# Altium footprint library HARTING Footprints.PcbLib: 317 footprints (part 1 of 20)
Each footprint in its own frame and in the unit in brackets; x right, y up, seen from the top. Pads: shape width x height; smd on the part's side, far side on the other; paste and mask are expansions set on the pad; w line width, h text height; cw(c..) or ccw(c..) is an arc to the next point about the centre after c.
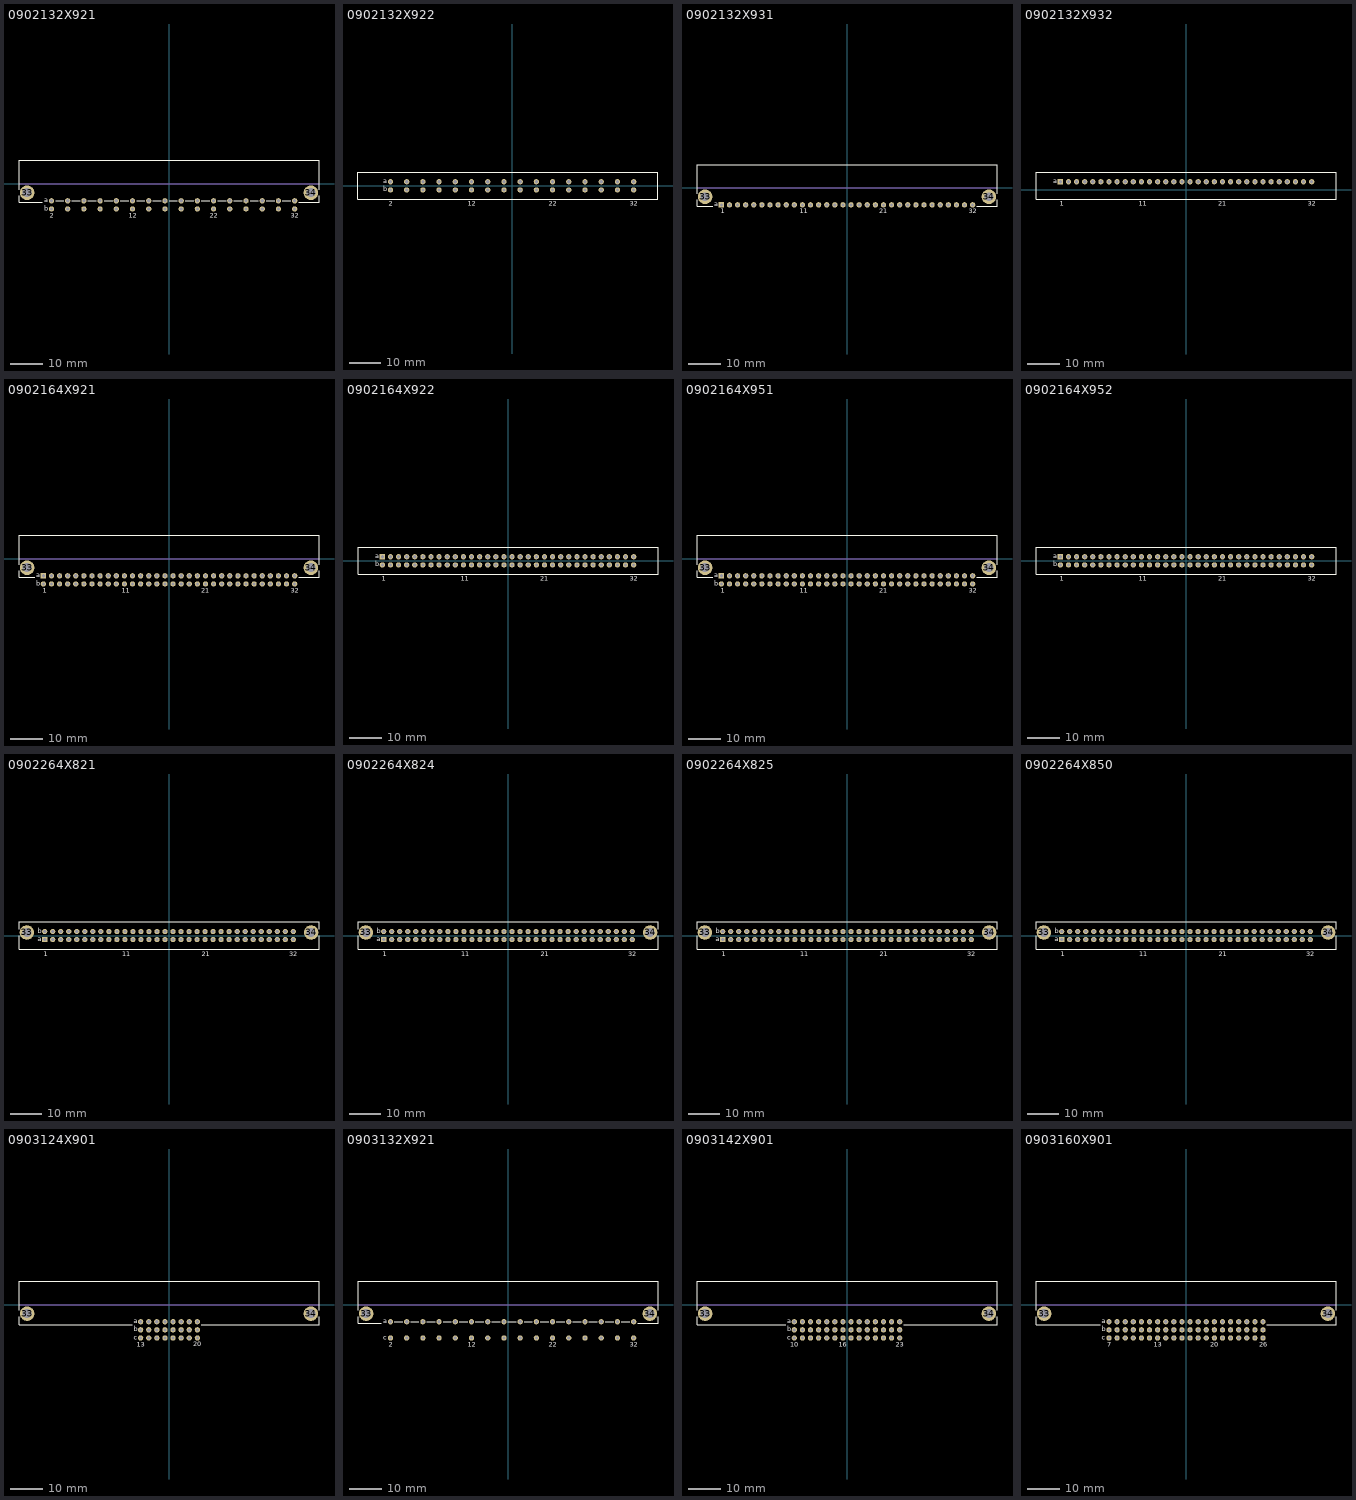
[diagram p0: the footprints below, top view; thin cyan lines are the x and y axes]

## 0902132X921 [mm] "Connector; DIN 41612, Type B, Thru-Hole; Rows a+b, 32 Position; Right Angle"
height 8.6
pads (34):
  round 4.6 hole 2.8: 33(-44.45,-2.76) 34(44.45,-2.76)
  round 1.65 hole 1: A2(-36.83,-5.3) A4(-31.75,-5.3) A6(-26.67,-5.3) A8(-21.59,-5.3) A10(-16.51,-5.3) A12(-11.43,-5.3) A14(-6.35,-5.3) A16(-1.27,-5.3) A18(3.81,-5.3) A20(8.89,-5.3) A22(13.97,-5.3) A24(19.05,-5.3) A26(24.13,-5.3) A28(29.21,-5.3) A30(34.29,-5.3) A32(39.37,-5.3) B2(-36.83,-7.84) B4(-31.75,-7.84) B6(-26.67,-7.84) B8(-21.59,-7.84) B10(-16.51,-7.84) B12(-11.43,-7.84) B14(-6.35,-7.84) B16(-1.27,-7.84) B18(3.81,-7.84) B20(8.89,-7.84) B22(13.97,-7.84) B24(19.05,-7.84) B26(24.13,-7.84) B28(29.21,-7.84) B30(34.29,-7.84) B32(39.37,-7.84)
Top Overlay:
  lines w0.2: -47,-3.76 -47,-5.8 -39.7,-5.8 ; -47,-1.76 -47,7.34 47,7.34 47,-1.76 ; -35.56,-5.3 -32.93,-5.3 ; -30.48,-5.3 -27.85,-5.3 ; -25.4,-5.3 -22.77,-5.3 ; -20.32,-5.3 -17.69,-5.3 ; -15.24,-5.3 -12.61,-5.3 ; -10.16,-5.3 -7.53,-5.3 ; -5.08,-5.3 -2.45,-5.3 ; 0,-5.3 2.63,-5.3 ; 5.08,-5.3 7.71,-5.3 ; 10.16,-5.3 12.79,-5.3 ; 15.24,-5.3 17.87,-5.3 ; 20.32,-5.3 22.95,-5.3 ; 25.4,-5.3 28.03,-5.3 ; 30.48,-5.3 33.11,-5.3 ; 35.56,-5.3 38.19,-5.3 ; 40.595,-5.8 47,-5.8 47,-3.76
  text "22" at 12.72,-10.54 h1.5
  text "12" at -12.68,-10.54 h1.5
  text "32" at 38.12,-10.54 h1.5
  text "b" at -39.04,-8.34 h1.5
  text "a" at -39.04,-5.8 h1.5
  text "2" at -37.33,-10.54 h1.5
Mechanical 1:
  lines w0.1: -47,0 47,0
  text "PCB Edge" at -46.47,0.5 h0.6

## 0902132X922 [mm] "Connector; DIN 41612, Type B, Thru-Hole; Rows a+b, 32 Position; Vertical, No Mounting Fixture"
height 13
pads (32):
  round 1.65 hole 1: A2(-38.1,1.27) A4(-33.02,1.27) A6(-27.94,1.27) A8(-22.86,1.27) A10(-17.78,1.27) A12(-12.7,1.27) A14(-7.62,1.27) A16(-2.54,1.27) A18(2.54,1.27) A20(7.62,1.27) A22(12.7,1.27) A24(17.78,1.27) A26(22.86,1.27) A28(27.94,1.27) A30(33.02,1.27) A32(38.1,1.27) B2(-38.1,-1.27) B4(-33.02,-1.27) B6(-27.94,-1.27) B8(-22.86,-1.27) B10(-17.78,-1.27) B12(-12.7,-1.27) B14(-7.62,-1.27) B16(-2.54,-1.27) B18(2.54,-1.27) B20(7.62,-1.27) B22(12.7,-1.27) B24(17.78,-1.27) B26(22.86,-1.27) B28(27.94,-1.27) B30(33.02,-1.27) B32(38.1,-1.27)
Top Overlay:
  lines w0.2: -48.27,-4.25 -48.27,4.25 45.73,4.25 45.73,-4.25 -48.27,-4.25
  text "22" at 11.45,-6.23 h1.5
  text "12" at -13.95,-6.23 h1.5
  text "32" at 36.85,-6.23 h1.5
  text "b" at -40.31,-1.77 h1.5
  text "a" at -40.31,0.77 h1.5
  text "2" at -38.6,-6.23 h1.5

## 0902132X931 [mm] "Connector; DIN 41612, Type B, Thru-Hole; Row a, 32 Position; Right Angle"
height 8.6
pads (34):
  round 4.6 hole 2.8: 33(-44.45,-2.76) 34(44.45,-2.76)
  rect 1.65x1.65 hole 1: A1(-39.37,-5.3)
  round 1.65 hole 1: A2(-36.83,-5.3) A3(-34.29,-5.3) A4(-31.75,-5.3) A5(-29.21,-5.3) A6(-26.67,-5.3) A7(-24.13,-5.3) A8(-21.59,-5.3) A9(-19.05,-5.3) A10(-16.51,-5.3) A11(-13.97,-5.3) A12(-11.43,-5.3) A13(-8.89,-5.3) A14(-6.35,-5.3) A15(-3.81,-5.3) A16(-1.27,-5.3) A17(1.27,-5.3) A18(3.81,-5.3) A19(6.35,-5.3) A20(8.89,-5.3) A21(11.43,-5.3) A22(13.97,-5.3) A23(16.51,-5.3) A24(19.05,-5.3) A25(21.59,-5.3) A26(24.13,-5.3) A27(26.67,-5.3) A28(29.21,-5.3) A29(31.75,-5.3) A30(34.29,-5.3) A31(36.83,-5.3) A32(39.37,-5.3)
Top Overlay:
  lines w0.2: -47,-3.76 -47,-5.8 -42.07,-5.8 ; -47,-1.76 -47,7.34 47,7.34 47,-1.76 ; 40.595,-5.8 47,-5.8 47,-3.76
  text "21" at 10.18,-8 h1.5
  text "11" at -14.845,-8 h1.5
  text "32" at 38.12,-8 h1.5
  text "a" at -41.58,-5.8 h1.5
  text "1" at -39.62,-8 h1.5
Mechanical 1:
  lines w0.1: -47,0 47,0
  text "PCB Edge" at -46.47,0.5 h0.6

## 0902132X932 [mm] "Connector; DIN 41612, Type B, Thru-Hole; Row a, 32 Position; Vertical, No Mounting Fixture"
height 13
pads (32):
  rect 1.65x1.65 hole 1: A1(-39.37,2.54)
  round 1.65 hole 1: A2(-36.83,2.54) A3(-34.29,2.54) A4(-31.75,2.54) A5(-29.21,2.54) A6(-26.67,2.54) A7(-24.13,2.54) A8(-21.59,2.54) A9(-19.05,2.54) A10(-16.51,2.54) A11(-13.97,2.54) A12(-11.43,2.54) A13(-8.89,2.54) A14(-6.35,2.54) A15(-3.81,2.54) A16(-1.27,2.54) A17(1.27,2.54) A18(3.81,2.54) A19(6.35,2.54) A20(8.89,2.54) A21(11.43,2.54) A22(13.97,2.54) A23(16.51,2.54) A24(19.05,2.54) A25(21.59,2.54) A26(24.13,2.54) A27(26.67,2.54) A28(29.21,2.54) A29(31.75,2.54) A30(34.29,2.54) A31(36.83,2.54) A32(39.37,2.54)
Top Overlay:
  lines w0.2: -47,-2.98 47,-2.98 47,5.52 -47,5.52 -47,-2.98
  text "a" at -41.58,2.04 h1.5
  text "1" at -39.62,-4.96 h1.5
  text "32" at 38.12,-4.96 h1.5
  text "11" at -14.82,-4.96 h1.5
  text "21" at 10.18,-4.96 h1.5

## 0902164X921 [mm] "Connector; DIN 41612, Type B, Thru-Hole; Rows a+b, 64 Position; Right Angle"
height 8.6
pads (66):
  round 4.6 hole 2.8: 33(-44.45,-2.76) 34(44.45,-2.76)
  rect 1.65x1.65 hole 1: A1(-39.37,-5.3)
  round 1.65 hole 1: A2(-36.83,-5.3) A3(-34.29,-5.3) A4(-31.75,-5.3) A5(-29.21,-5.3) A6(-26.67,-5.3) A7(-24.13,-5.3) A8(-21.59,-5.3) A9(-19.05,-5.3) A10(-16.51,-5.3) A11(-13.97,-5.3) A12(-11.43,-5.3) A13(-8.89,-5.3) A14(-6.35,-5.3) A15(-3.81,-5.3) A16(-1.27,-5.3) A17(1.27,-5.3) A18(3.81,-5.3) A19(6.35,-5.3) A20(8.89,-5.3) A21(11.43,-5.3) A22(13.97,-5.3) A23(16.51,-5.3) A24(19.05,-5.3) A25(21.59,-5.3) A26(24.13,-5.3) A27(26.67,-5.3) A28(29.21,-5.3) A29(31.75,-5.3) A30(34.29,-5.3) A31(36.83,-5.3) A32(39.37,-5.3) B1(-39.37,-7.84) B2(-36.83,-7.84) B3(-34.29,-7.84) B4(-31.75,-7.84) B5(-29.21,-7.84) B6(-26.67,-7.84) B7(-24.13,-7.84) B8(-21.59,-7.84) B9(-19.05,-7.84) B10(-16.51,-7.84) B11(-13.97,-7.84) B12(-11.43,-7.84) B13(-8.89,-7.84) B14(-6.35,-7.84) B15(-3.81,-7.84) B16(-1.27,-7.84) B17(1.27,-7.84) B18(3.81,-7.84) B19(6.35,-7.84) B20(8.89,-7.84) B21(11.43,-7.84) B22(13.97,-7.84) B23(16.51,-7.84) B24(19.05,-7.84) B25(21.59,-7.84) B26(24.13,-7.84) B27(26.67,-7.84) B28(29.21,-7.84) B29(31.75,-7.84) B30(34.29,-7.84) B31(36.83,-7.84) B32(39.37,-7.84)
Top Overlay:
  lines w0.2: -47,-3.76 -47,-5.8 -42.07,-5.8 ; -47,-1.76 -47,7.34 47,7.34 47,-1.76 ; 40.595,-5.8 47,-5.8 47,-3.76
  text "1" at -39.62,-10.54 h1.5
  text "a" at -41.58,-5.8 h1.5
  text "b" at -41.58,-8.34 h1.5
  text "32" at 38.12,-10.54 h1.5
  text "11" at -14.845,-10.54 h1.5
  text "21" at 10.18,-10.54 h1.5
Mechanical 1:
  lines w0.1: -47,0 47,0
  text "PCB Edge" at -46.47,0.5 h0.6

## 0902164X922 [mm] "Connector; DIN 41612, Type B, Thru-Hole; Rows a+b, 64 Position; Vertical, No Mounting Fixture"
height 13
pads (64):
  rect 1.65x1.65 hole 1: A1(-39.37,1.27)
  round 1.65 hole 1: A2(-36.83,1.27) A3(-34.29,1.27) A4(-31.75,1.27) A5(-29.21,1.27) A6(-26.67,1.27) A7(-24.13,1.27) A8(-21.59,1.27) A9(-19.05,1.27) A10(-16.51,1.27) A11(-13.97,1.27) A12(-11.43,1.27) A13(-8.89,1.27) A14(-6.35,1.27) A15(-3.81,1.27) A16(-1.27,1.27) A17(1.27,1.27) A18(3.81,1.27) A19(6.35,1.27) A20(8.89,1.27) A21(11.43,1.27) A22(13.97,1.27) A23(16.51,1.27) A24(19.05,1.27) A25(21.59,1.27) A26(24.13,1.27) A27(26.67,1.27) A28(29.21,1.27) A29(31.75,1.27) A30(34.29,1.27) A31(36.83,1.27) A32(39.37,1.27) B1(-39.37,-1.27) B2(-36.83,-1.27) B3(-34.29,-1.27) B4(-31.75,-1.27) B5(-29.21,-1.27) B6(-26.67,-1.27) B7(-24.13,-1.27) B8(-21.59,-1.27) B9(-19.05,-1.27) B10(-16.51,-1.27) B11(-13.97,-1.27) B12(-11.43,-1.27) B13(-8.89,-1.27) B14(-6.35,-1.27) B15(-3.81,-1.27) B16(-1.27,-1.27) B17(1.27,-1.27) B18(3.81,-1.27) B19(6.35,-1.27) B20(8.89,-1.27) B21(11.43,-1.27) B22(13.97,-1.27) B23(16.51,-1.27) B24(19.05,-1.27) B25(21.59,-1.27) B26(24.13,-1.27) B27(26.67,-1.27) B28(29.21,-1.27) B29(31.75,-1.27) B30(34.29,-1.27) B31(36.83,-1.27) B32(39.37,-1.27)
Top Overlay:
  lines w0.2: -47,-4.25 -47,4.25 47,4.25 47,-4.25 -47,-4.25
  text "21" at 10.18,-6.23 h1.5
  text "11" at -14.82,-6.23 h1.5
  text "32" at 38.12,-6.23 h1.5
  text "b" at -41.58,-1.77 h1.5
  text "a" at -41.58,0.77 h1.5
  text "1" at -39.62,-6.23 h1.5

## 0902164X951 [mm] "Connector; DIN 41612, Type B, Thru-Hole; Rows a+b, 64 Position; Right Angle"
height 8.6
pads (66):
  round 4.6 hole 2.8: 33(-44.45,-2.76) 34(44.45,-2.76)
  rect 1.65x1.65 hole 1: A1(-39.37,-5.3)
  round 1.65 hole 1: A2(-36.83,-5.3) A3(-34.29,-5.3) A4(-31.75,-5.3) A5(-29.21,-5.3) A6(-26.67,-5.3) A7(-24.13,-5.3) A8(-21.59,-5.3) A9(-19.05,-5.3) A10(-16.51,-5.3) A11(-13.97,-5.3) A12(-11.43,-5.3) A13(-8.89,-5.3) A14(-6.35,-5.3) A15(-3.81,-5.3) A16(-1.27,-5.3) A17(1.27,-5.3) A18(3.81,-5.3) A19(6.35,-5.3) A20(8.89,-5.3) A21(11.43,-5.3) A22(13.97,-5.3) A23(16.51,-5.3) A24(19.05,-5.3) A25(21.59,-5.3) A26(24.13,-5.3) A27(26.67,-5.3) A28(29.21,-5.3) A29(31.75,-5.3) A30(34.29,-5.3) A31(36.83,-5.3) A32(39.37,-5.3) B1(-39.37,-7.84) B2(-36.83,-7.84) B3(-34.29,-7.84) B4(-31.75,-7.84) B5(-29.21,-7.84) B6(-26.67,-7.84) B7(-24.13,-7.84) B8(-21.59,-7.84) B9(-19.05,-7.84) B10(-16.51,-7.84) B11(-13.97,-7.84) B12(-11.43,-7.84) B13(-8.89,-7.84) B14(-6.35,-7.84) B15(-3.81,-7.84) B16(-1.27,-7.84) B17(1.27,-7.84) B18(3.81,-7.84) B19(6.35,-7.84) B20(8.89,-7.84) B21(11.43,-7.84) B22(13.97,-7.84) B23(16.51,-7.84) B24(19.05,-7.84) B25(21.59,-7.84) B26(24.13,-7.84) B27(26.67,-7.84) B28(29.21,-7.84) B29(31.75,-7.84) B30(34.29,-7.84) B31(36.83,-7.84) B32(39.37,-7.84)
Top Overlay:
  lines w0.2: -47,-3.76 -47,-5.8 -42.07,-5.8 ; -47,-1.76 -47,7.34 47,7.34 47,-1.76 ; 40.595,-5.8 47,-5.8 47,-3.76
  text "1" at -39.62,-10.54 h1.5
  text "a" at -41.58,-5.8 h1.5
  text "b" at -41.58,-8.34 h1.5
  text "32" at 38.12,-10.54 h1.5
  text "11" at -14.845,-10.54 h1.5
  text "21" at 10.18,-10.54 h1.5
Mechanical 1:
  lines w0.1: -47,0 47,0
  text "PCB Edge" at -46.47,0.5 h0.6

## 0902164X952 [mm] "Connector; DIN 41612, Type B, Thru-Hole; Rows a+b, 64 Position; Vertical, No Mounting Fixture"
height 13
pads (64):
  rect 1.65x1.65 hole 1: A1(-39.37,1.27)
  round 1.65 hole 1: A2(-36.83,1.27) A3(-34.29,1.27) A4(-31.75,1.27) A5(-29.21,1.27) A6(-26.67,1.27) A7(-24.13,1.27) A8(-21.59,1.27) A9(-19.05,1.27) A10(-16.51,1.27) A11(-13.97,1.27) A12(-11.43,1.27) A13(-8.89,1.27) A14(-6.35,1.27) A15(-3.81,1.27) A16(-1.27,1.27) A17(1.27,1.27) A18(3.81,1.27) A19(6.35,1.27) A20(8.89,1.27) A21(11.43,1.27) A22(13.97,1.27) A23(16.51,1.27) A24(19.05,1.27) A25(21.59,1.27) A26(24.13,1.27) A27(26.67,1.27) A28(29.21,1.27) A29(31.75,1.27) A30(34.29,1.27) A31(36.83,1.27) A32(39.37,1.27) B1(-39.37,-1.27) B2(-36.83,-1.27) B3(-34.29,-1.27) B4(-31.75,-1.27) B5(-29.21,-1.27) B6(-26.67,-1.27) B7(-24.13,-1.27) B8(-21.59,-1.27) B9(-19.05,-1.27) B10(-16.51,-1.27) B11(-13.97,-1.27) B12(-11.43,-1.27) B13(-8.89,-1.27) B14(-6.35,-1.27) B15(-3.81,-1.27) B16(-1.27,-1.27) B17(1.27,-1.27) B18(3.81,-1.27) B19(6.35,-1.27) B20(8.89,-1.27) B21(11.43,-1.27) B22(13.97,-1.27) B23(16.51,-1.27) B24(19.05,-1.27) B25(21.59,-1.27) B26(24.13,-1.27) B27(26.67,-1.27) B28(29.21,-1.27) B29(31.75,-1.27) B30(34.29,-1.27) B31(36.83,-1.27) B32(39.37,-1.27)
Top Overlay:
  lines w0.2: -47,-4.25 -47,4.25 47,4.25 47,-4.25 -47,-4.25
  text "21" at 10.18,-6.23 h1.5
  text "11" at -14.82,-6.23 h1.5
  text "32" at 38.12,-6.23 h1.5
  text "b" at -41.58,-1.77 h1.5
  text "a" at -41.58,0.77 h1.5
  text "1" at -39.62,-6.23 h1.5

## 0902264X821 [mm] "Connector; DIN 41612, Type B, Thru-Hole; Rows a+b, 64 Position; Vertical"
height 11.6
pads (66):
  round 4.6 hole 2.8: 33(-45,0.97) 34(45,0.97)
  rect 1.65x1.65 hole 1: A1(-39.37,-1.27)
  round 1.65 hole 1: A2(-36.83,-1.27) A3(-34.29,-1.27) A4(-31.75,-1.27) A5(-29.21,-1.27) A6(-26.67,-1.27) A7(-24.13,-1.27) A8(-21.59,-1.27) A9(-19.05,-1.27) A10(-16.51,-1.27) A11(-13.97,-1.27) A12(-11.43,-1.27) A13(-8.89,-1.27) A14(-6.35,-1.27) A15(-3.81,-1.27) A16(-1.27,-1.27) A17(1.27,-1.27) A18(3.81,-1.27) A19(6.35,-1.27) A20(8.89,-1.27) A21(11.43,-1.27) A22(13.97,-1.27) A23(16.51,-1.27) A24(19.05,-1.27) A25(21.59,-1.27) A26(24.13,-1.27) A27(26.67,-1.27) A28(29.21,-1.27) A29(31.75,-1.27) A30(34.29,-1.27) A31(36.83,-1.27) A32(39.37,-1.27) B1(-39.37,1.27) B2(-36.83,1.27) B3(-34.29,1.27) B4(-31.75,1.27) B5(-29.21,1.27) B6(-26.67,1.27) B7(-24.13,1.27) B8(-21.59,1.27) B9(-19.05,1.27) B10(-16.51,1.27) B11(-13.97,1.27) B12(-11.43,1.27) B13(-8.89,1.27) B14(-6.35,1.27) B15(-3.81,1.27) B16(-1.27,1.27) B17(1.27,1.27) B18(3.81,1.27) B19(6.35,1.27) B20(8.89,1.27) B21(11.43,1.27) B22(13.97,1.27) B23(16.51,1.27) B24(19.05,1.27) B25(21.59,1.27) B26(24.13,1.27) B27(26.67,1.27) B28(29.21,1.27) B29(31.75,1.27) B30(34.29,1.27) B31(36.83,1.27) B32(39.37,1.27)
Top Overlay:
  lines w0.2: -47.5,-0.13 -47.5,-4.3 47.5,-4.3 47.5,-0.13 ; -47.5,2.07 -47.5,4.3 47.5,4.3 47.5,2.07
  text "1" at -39.62,-6.48 h1.5
  text "a" at -41.58,-1.77 h1.5
  text "b" at -41.58,0.77 h1.5
  text "32" at 38.12,-6.48 h1.5
  text "11" at -14.82,-6.48 h1.5
  text "21" at 10.43,-6.48 h1.5

## 0902264X824 [mm] "Connector; DIN 41612, Type B, Thru-Hole; Rows a+b, 64 Position; Vertical"
height 11.6
pads (66):
  round 4.6 hole 2.8: 33(-45,0.97) 34(45,0.97)
  rect 1.65x1.65 hole 1: A1(-39.37,-1.27)
  round 1.65 hole 1: A2(-36.83,-1.27) A3(-34.29,-1.27) A4(-31.75,-1.27) A5(-29.21,-1.27) A6(-26.67,-1.27) A7(-24.13,-1.27) A8(-21.59,-1.27) A9(-19.05,-1.27) A10(-16.51,-1.27) A11(-13.97,-1.27) A12(-11.43,-1.27) A13(-8.89,-1.27) A14(-6.35,-1.27) A15(-3.81,-1.27) A16(-1.27,-1.27) A17(1.27,-1.27) A18(3.81,-1.27) A19(6.35,-1.27) A20(8.89,-1.27) A21(11.43,-1.27) A22(13.97,-1.27) A23(16.51,-1.27) A24(19.05,-1.27) A25(21.59,-1.27) A26(24.13,-1.27) A27(26.67,-1.27) A28(29.21,-1.27) A29(31.75,-1.27) A30(34.29,-1.27) A31(36.83,-1.27) A32(39.37,-1.27) B1(-39.37,1.27) B2(-36.83,1.27) B3(-34.29,1.27) B4(-31.75,1.27) B5(-29.21,1.27) B6(-26.67,1.27) B7(-24.13,1.27) B8(-21.59,1.27) B9(-19.05,1.27) B10(-16.51,1.27) B11(-13.97,1.27) B12(-11.43,1.27) B13(-8.89,1.27) B14(-6.35,1.27) B15(-3.81,1.27) B16(-1.27,1.27) B17(1.27,1.27) B18(3.81,1.27) B19(6.35,1.27) B20(8.89,1.27) B21(11.43,1.27) B22(13.97,1.27) B23(16.51,1.27) B24(19.05,1.27) B25(21.59,1.27) B26(24.13,1.27) B27(26.67,1.27) B28(29.21,1.27) B29(31.75,1.27) B30(34.29,1.27) B31(36.83,1.27) B32(39.37,1.27)
Top Overlay:
  lines w0.2: -47.5,-0.13 -47.5,-4.3 47.5,-4.3 47.5,-0.13 ; -47.5,2.07 -47.5,4.3 47.5,4.3 47.5,2.07
  text "1" at -39.62,-6.48 h1.5
  text "a" at -41.58,-1.77 h1.5
  text "b" at -41.58,0.77 h1.5
  text "32" at 38.12,-6.48 h1.5
  text "11" at -14.82,-6.48 h1.5
  text "21" at 10.43,-6.48 h1.5

## 0902264X825 [mm] "Connector; DIN 41612, Type B, Thru-Hole; Rows a+b, 64 Position; Vertical"
height 11.6
pads (66):
  round 4.6 hole 2.8: 33(-45,0.97) 34(45,0.97)
  rect 1.65x1.65 hole 1: A1(-39.37,-1.27)
  round 1.65 hole 1: A2(-36.83,-1.27) A3(-34.29,-1.27) A4(-31.75,-1.27) A5(-29.21,-1.27) A6(-26.67,-1.27) A7(-24.13,-1.27) A8(-21.59,-1.27) A9(-19.05,-1.27) A10(-16.51,-1.27) A11(-13.97,-1.27) A12(-11.43,-1.27) A13(-8.89,-1.27) A14(-6.35,-1.27) A15(-3.81,-1.27) A16(-1.27,-1.27) A17(1.27,-1.27) A18(3.81,-1.27) A19(6.35,-1.27) A20(8.89,-1.27) A21(11.43,-1.27) A22(13.97,-1.27) A23(16.51,-1.27) A24(19.05,-1.27) A25(21.59,-1.27) A26(24.13,-1.27) A27(26.67,-1.27) A28(29.21,-1.27) A29(31.75,-1.27) A30(34.29,-1.27) A31(36.83,-1.27) A32(39.37,-1.27) B1(-39.37,1.27) B2(-36.83,1.27) B3(-34.29,1.27) B4(-31.75,1.27) B5(-29.21,1.27) B6(-26.67,1.27) B7(-24.13,1.27) B8(-21.59,1.27) B9(-19.05,1.27) B10(-16.51,1.27) B11(-13.97,1.27) B12(-11.43,1.27) B13(-8.89,1.27) B14(-6.35,1.27) B15(-3.81,1.27) B16(-1.27,1.27) B17(1.27,1.27) B18(3.81,1.27) B19(6.35,1.27) B20(8.89,1.27) B21(11.43,1.27) B22(13.97,1.27) B23(16.51,1.27) B24(19.05,1.27) B25(21.59,1.27) B26(24.13,1.27) B27(26.67,1.27) B28(29.21,1.27) B29(31.75,1.27) B30(34.29,1.27) B31(36.83,1.27) B32(39.37,1.27)
Top Overlay:
  lines w0.2: -47.5,-0.13 -47.5,-4.3 47.5,-4.3 47.5,-0.13 ; -47.5,2.07 -47.5,4.3 47.5,4.3 47.5,2.07
  text "1" at -39.62,-6.48 h1.5
  text "a" at -41.58,-1.77 h1.5
  text "b" at -41.58,0.77 h1.5
  text "32" at 38.12,-6.48 h1.5
  text "11" at -14.82,-6.48 h1.5
  text "21" at 10.43,-6.48 h1.5

## 0902264X850 [mm] "Connector; DIN 41612, Type B, Thru-Hole; Rows a+b, 64 Position; Vertical"
height 11.6
pads (66):
  round 4.6 hole 2.8: 33(-45,0.97) 34(45,0.97)
  rect 1.65x1.65 hole 1: A1(-39.37,-1.27)
  round 1.65 hole 1: A2(-36.83,-1.27) A3(-34.29,-1.27) A4(-31.75,-1.27) A5(-29.21,-1.27) A6(-26.67,-1.27) A7(-24.13,-1.27) A8(-21.59,-1.27) A9(-19.05,-1.27) A10(-16.51,-1.27) A11(-13.97,-1.27) A12(-11.43,-1.27) A13(-8.89,-1.27) A14(-6.35,-1.27) A15(-3.81,-1.27) A16(-1.27,-1.27) A17(1.27,-1.27) A18(3.81,-1.27) A19(6.35,-1.27) A20(8.89,-1.27) A21(11.43,-1.27) A22(13.97,-1.27) A23(16.51,-1.27) A24(19.05,-1.27) A25(21.59,-1.27) A26(24.13,-1.27) A27(26.67,-1.27) A28(29.21,-1.27) A29(31.75,-1.27) A30(34.29,-1.27) A31(36.83,-1.27) A32(39.37,-1.27) B1(-39.37,1.27) B2(-36.83,1.27) B3(-34.29,1.27) B4(-31.75,1.27) B5(-29.21,1.27) B6(-26.67,1.27) B7(-24.13,1.27) B8(-21.59,1.27) B9(-19.05,1.27) B10(-16.51,1.27) B11(-13.97,1.27) B12(-11.43,1.27) B13(-8.89,1.27) B14(-6.35,1.27) B15(-3.81,1.27) B16(-1.27,1.27) B17(1.27,1.27) B18(3.81,1.27) B19(6.35,1.27) B20(8.89,1.27) B21(11.43,1.27) B22(13.97,1.27) B23(16.51,1.27) B24(19.05,1.27) B25(21.59,1.27) B26(24.13,1.27) B27(26.67,1.27) B28(29.21,1.27) B29(31.75,1.27) B30(34.29,1.27) B31(36.83,1.27) B32(39.37,1.27)
Top Overlay:
  lines w0.2: -47.5,-0.13 -47.5,-4.3 47.5,-4.3 47.5,-0.13 ; -47.5,2.07 -47.5,4.3 47.5,4.3 47.5,2.07
  text "1" at -39.62,-6.48 h1.5
  text "a" at -41.58,-1.77 h1.5
  text "b" at -41.58,0.77 h1.5
  text "32" at 38.12,-6.48 h1.5
  text "11" at -14.82,-6.48 h1.5
  text "21" at 10.43,-6.48 h1.5

## 0903124X901 [mm] "Connector; DIN 41612, Type M, Thru-Hole; Rows a+b+c, 24 Position; Right Angle"
height 11.1
pads (26):
  round 4.6 hole 2.8: 33(-44.45,-2.76) 34(44.45,-2.76)
  round 1.65 hole 1: A13(-8.89,-5.3) A14(-6.35,-5.3) A15(-3.81,-5.3) A16(-1.27,-5.3) A17(1.27,-5.3) A18(3.81,-5.3) A19(6.35,-5.3) A20(8.89,-5.3) B13(-8.89,-7.84) B14(-6.35,-7.84) B15(-3.81,-7.84) B16(-1.27,-7.84) B17(1.27,-7.84) B18(3.81,-7.84) B19(6.35,-7.84) B20(8.89,-7.84) C13(-8.89,-10.38) C14(-6.35,-10.38) C15(-3.81,-10.38) C16(-1.27,-10.38) C17(1.27,-10.38) C18(3.81,-10.38) C19(6.35,-10.38) C20(8.89,-10.38)
Top Overlay:
  lines w0.2: -47,-3.76 -47,-6.3 -11.59,-6.3 ; -47,-1.76 -47,7.34 47,7.34 47,-1.76 ; 10.115,-6.3 47,-6.3 47,-3.76
  text "13" at -10.14,-13.08 h1.5
  text "a" at -11.1,-5.8 h1.5
  text "b" at -11.1,-8.34 h1.5
  text "c" at -11.1,-10.88 h1.5
  text "20" at 7.64,-12.92 h1.5
Mechanical 1:
  lines w0.1: -47,0 47,0
  text "PCB Edge" at -46.47,0.5 h0.6

## 0903132X921 [mm] "Connector; DIN 41612, Type C, Thru-Hole; Rows a+c, 32 Position; Right Angle"
height 11.1
pads (34):
  round 4.6 hole 2.8: 33(-44.45,-2.76) 34(44.45,-2.76)
  round 1.65 hole 1: A2(-36.83,-5.3) A4(-31.75,-5.3) A6(-26.67,-5.3) A8(-21.59,-5.3) A10(-16.51,-5.3) A12(-11.43,-5.3) A14(-6.35,-5.3) A16(-1.27,-5.3) A18(3.81,-5.3) A20(8.89,-5.3) A22(13.97,-5.3) A24(19.05,-5.3) A26(24.13,-5.3) A28(29.21,-5.3) A30(34.29,-5.3) A32(39.37,-5.3) C2(-36.83,-10.38) C4(-31.75,-10.38) C6(-26.67,-10.38) C8(-21.59,-10.38) C10(-16.51,-10.38) C12(-11.43,-10.38) C14(-6.35,-10.38) C16(-1.27,-10.38) C18(3.81,-10.38) C20(8.89,-10.38) C22(13.97,-10.38) C24(19.05,-10.38) C26(24.13,-10.38) C28(29.21,-10.38) C30(34.29,-10.38) C32(39.37,-10.38)
Top Overlay:
  lines w0.2: -47,-1.76 -47,7.34 47,7.34 47,-1.76 ; -46.99,-3.76 -46.99,-5.8 -39.69,-5.8 ; -35.605,-5.3 -32.975,-5.3 ; -30.525,-5.3 -27.895,-5.3 ; -25.445,-5.3 -22.815,-5.3 ; -20.365,-5.3 -17.735,-5.3 ; -15.285,-5.3 -12.655,-5.3 ; -10.205,-5.3 -7.575,-5.3 ; -5.125,-5.3 -2.495,-5.3 ; -0.045,-5.3 2.585,-5.3 ; 5.035,-5.3 7.665,-5.3 ; 10.115,-5.3 12.745,-5.3 ; 15.195,-5.3 17.825,-5.3 ; 20.275,-5.3 22.905,-5.3 ; 25.355,-5.3 27.985,-5.3 ; 30.435,-5.3 33.065,-5.3 ; 35.515,-5.3 38.145,-5.3 ; 40.595,-5.8 47,-5.8 47,-3.76
  text "22" at 12.72,-13.08 h1.5
  text "12" at -12.68,-13.08 h1.5
  text "32" at 38.12,-13.08 h1.5
  text "c" at -39.04,-10.88 h1.5
  text "a" at -39.04,-5.8 h1.5
  text "2" at -37.33,-13.08 h1.5
Mechanical 1:
  lines w0.1: -47,0 47,0
  text "PCB Edge" at -46.47,0.5 h0.6

## 0903142X901 [mm] "Connector; DIN 41612, Type M, Thru-Hole; Rows a+b+c, 42 Position; Right Angle"
height 11.1
pads (44):
  round 4.6 hole 2.8: 33(-44.45,-2.76) 34(44.45,-2.76)
  round 1.65 hole 1: A10(-16.51,-5.3) A11(-13.97,-5.3) A12(-11.43,-5.3) A13(-8.89,-5.3) A14(-6.35,-5.3) A15(-3.81,-5.3) A16(-1.27,-5.3) A17(1.27,-5.3) A18(3.81,-5.3) A19(6.35,-5.3) A20(8.89,-5.3) A21(11.43,-5.3) A22(13.97,-5.3) A23(16.51,-5.3) B10(-16.51,-7.84) B11(-13.97,-7.84) B12(-11.43,-7.84) B13(-8.89,-7.84) B14(-6.35,-7.84) B15(-3.81,-7.84) B16(-1.27,-7.84) B17(1.27,-7.84) B18(3.81,-7.84) B19(6.35,-7.84) B20(8.89,-7.84) B21(11.43,-7.84) B22(13.97,-7.84) B23(16.51,-7.84) C10(-16.51,-10.38) C11(-13.97,-10.38) C12(-11.43,-10.38) C13(-8.89,-10.38) C14(-6.35,-10.38) C15(-3.81,-10.38) C16(-1.27,-10.38) C17(1.27,-10.38) C18(3.81,-10.38) C19(6.35,-10.38) C20(8.89,-10.38) C21(11.43,-10.38) C22(13.97,-10.38) C23(16.51,-10.38)
Top Overlay:
  lines w0.2: -47,-3.76 -47,-6.3 -19.21,-6.3 ; -47,-1.76 -47,7.34 47,7.34 47,-1.76 ; 17.735,-6.3 47,-6.3 47,-3.76
  text "10" at -17.76,-13.08 h1.5
  text "a" at -18.72,-5.8 h1.5
  text "b" at -18.72,-8.34 h1.5
  text "c" at -18.72,-10.88 h1.5
  text "23" at 15.26,-13.08 h1.5
  text "16" at -2.52,-13.08 h1.5
Mechanical 1:
  lines w0.1: -47,0 47,0
  text "PCB Edge" at -46.47,0.5 h0.6

## 0903160X901 [mm] "Connector; DIN 41612, Type M, Thru-Hole; Rows a+b+c, 60 Position; Right Angle"
height 11.1
pads (62):
  round 4.6 hole 2.8: 33(-44.45,-2.76) 34(44.45,-2.76)
  round 1.65 hole 1: A7(-24.13,-5.3) A8(-21.59,-5.3) A9(-19.05,-5.3) A10(-16.51,-5.3) A11(-13.97,-5.3) A12(-11.43,-5.3) A13(-8.89,-5.3) A14(-6.35,-5.3) A15(-3.81,-5.3) A16(-1.27,-5.3) A17(1.27,-5.3) A18(3.81,-5.3) A19(6.35,-5.3) A20(8.89,-5.3) A21(11.43,-5.3) A22(13.97,-5.3) A23(16.51,-5.3) A24(19.05,-5.3) A25(21.59,-5.3) A26(24.13,-5.3) B7(-24.13,-7.84) B8(-21.59,-7.84) B9(-19.05,-7.84) B10(-16.51,-7.84) B11(-13.97,-7.84) B12(-11.43,-7.84) B13(-8.89,-7.84) B14(-6.35,-7.84) B15(-3.81,-7.84) B16(-1.27,-7.84) B17(1.27,-7.84) B18(3.81,-7.84) B19(6.35,-7.84) B20(8.89,-7.84) B21(11.43,-7.84) B22(13.97,-7.84) B23(16.51,-7.84) B24(19.05,-7.84) B25(21.59,-7.84) B26(24.13,-7.84) C7(-24.13,-10.38) C8(-21.59,-10.38) C9(-19.05,-10.38) C10(-16.51,-10.38) C11(-13.97,-10.38) C12(-11.43,-10.38) C13(-8.89,-10.38) C14(-6.35,-10.38) C15(-3.81,-10.38) C16(-1.27,-10.38) C17(1.27,-10.38) C18(3.81,-10.38) C19(6.35,-10.38) C20(8.89,-10.38) C21(11.43,-10.38) C22(13.97,-10.38) C23(16.51,-10.38) C24(19.05,-10.38) C25(21.59,-10.38) C26(24.13,-10.38)
Top Overlay:
  lines w0.2: -47,-3.76 -47,-6.3 -26.83,-6.3 ; -47,-1.76 -47,7.34 47,7.34 47,-1.76 ; 25.355,-6.3 47,-6.3 47,-3.76
  text "20" at 7.64,-13.08 h1.5
  text "13" at -10.14,-13.08 h1.5
  text "26" at 22.88,-13.08 h1.5
  text "c" at -26.34,-10.88 h1.5
  text "b" at -26.34,-8.34 h1.5
  text "a" at -26.34,-5.8 h1.5
  text "7" at -24.63,-13.08 h1.5
Mechanical 1:
  lines w0.1: -47,0 47,0
  text "PCB Edge" at -46.47,0.5 h0.6